# Altium footprint library L76.PcbLib: 1 footprints
Each footprint in its own frame and in the unit in brackets; x right, y up, seen from the top. Pads: shape width x height; smd on the part's side, far side on the other; paste and mask are expansions set on the pad; w line width, h text height; cw(c..) or ccw(c..) is an arc to the next point about the centre after c.
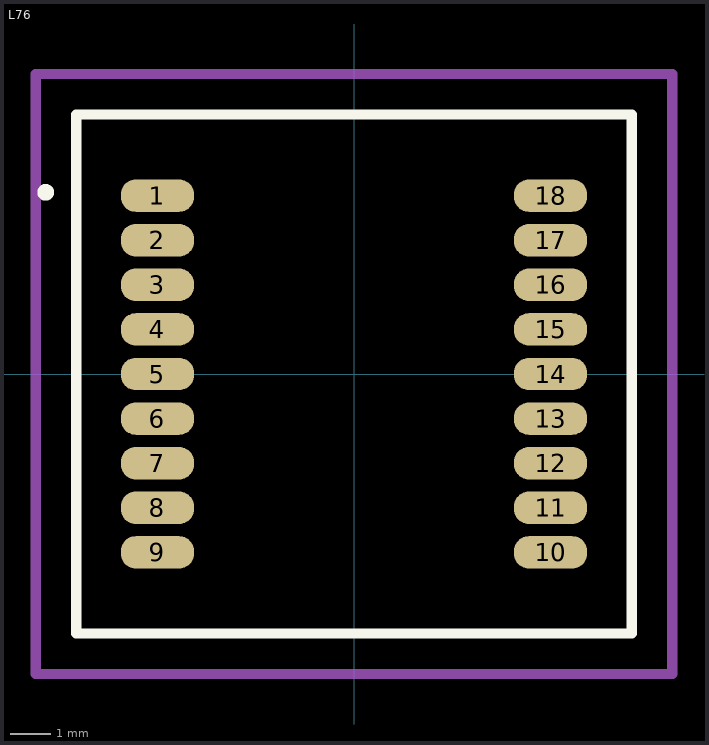
[diagram p0: the footprint, top view; thin cyan lines are the x and y axes]

## L76 [mm]
pads (18):
  rrect90% 1.8x0.8 smd: 1(-4.85,4.4) 2(-4.85,3.3) 3(-4.85,2.2) 4(-4.85,1.1) 5(-4.85,0) 6(-4.85,-1.1) 7(-4.85,-2.2) 8(-4.85,-3.3) 9(-4.85,-4.4) 10(4.85,-4.4) 11(4.85,-3.3) 12(4.85,-2.2) 13(4.85,-1.1) 14(4.85,0) 15(4.85,1.1) 16(4.85,2.2) 17(4.85,3.3) 18(4.85,4.4)
Top Overlay:
  circle w0.254: c-7.606,4.482 r0.078
  lines w0.254: -6.85,-6.4 6.85,-6.4 6.85,6.4 -6.85,6.4 ; -6.85,-6.4 -6.85,6.4 ; -6.85,-6.4 -6.85,0 -6.85,6.4
Mechanical 1:
  lines w0.254: -7.85,-7.4 7.85,-7.4 7.85,7.4 -7.85,7.4 -7.85,-7.4
3D body "User Library-QUECTEL L76.step": height 2.52, standoff 0, extent -4.866,-5.049 4.834,5.051